# Altium schematic symbol library Components - 02.10.25 - 08.26.SchLib: 1 symbol
Pins are listed as number, name and electrical type; pins without a type are passive.

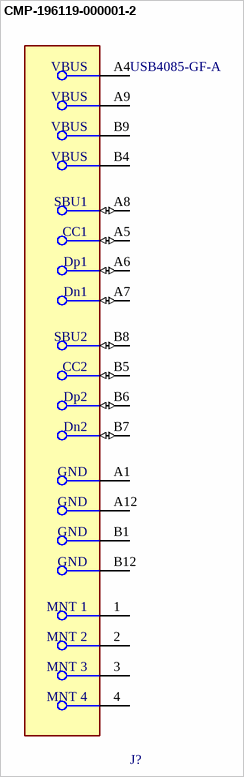
[diagram p0: symbol CMP-196119-000001-2]

## CMP-196119-000001-2
designator J?, comment USB4085-GF-A
CONN RCPT USB2.0 TYPE C 24POS RA; Gender: Receptacle; Number of Positions: 16; USB Standard: USB 2.0; Orientation: Right Angle; Contact Plating: Gold; Contact Material: Copper Alloy
footprint FP-USB4085-GF-A-MFG
pins: 1 MNT 1, 2 MNT 2, 3 MNT 3, 4 MNT 4, A1 GND (power), A4 VBUS (power), A5 CC1 (io), A6 Dp1 (io), A7 Dn1 (io), A8 SBU1 (io), A9 VBUS (power), A12 GND (power), B1 GND (power), B4 VBUS (power), B5 CC2 (io), B6 Dp2 (io), B7 Dn2 (io), B8 SBU2 (io), B9 VBUS (power), B12 GND (power)